# EAGLE library part RLY_OZ-SH (library carrilib)
5V Relay, 36 Ohm, 16A Manufacturer: TE Connectivity Part Number: OZ-SH-105D OZ-SH-105LM1
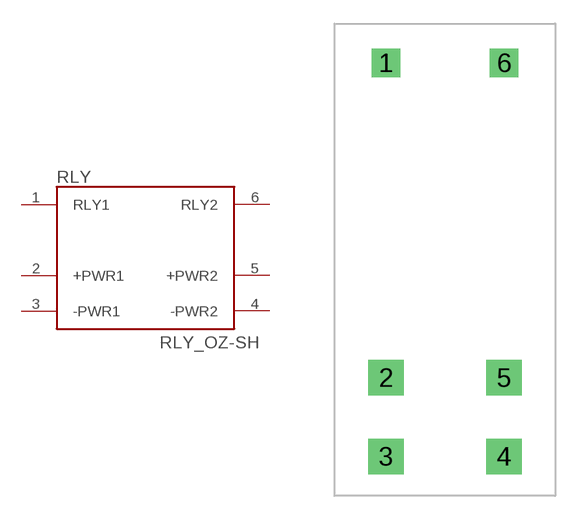
[diagram p14: symbol with the pads of OZ-RELAY; footprint OZ-RELAY]

Designator prefix RLY

## RLY_OZ-SH  [OZ-RELAY]
1  RLY1
2  +PWR1
3  -PWR1
4  -PWR2
5  +PWR2
6  RLY2

## Footprint OZ-RELAY (pad centres in mm)
drill 1.2 square: 1 -3.75,12.5; 6 3.75,12.5
drill 1.5 square: 2 -3.75,-7.5; 3 -3.75,-12.5; 4 3.75,-12.5; 5 3.75,-7.5